# Altium integrated library 6220xx21821 (rev17a).IntLib: 24 symbols
Pins are listed as number, name and electrical type; pins without a type are passive.

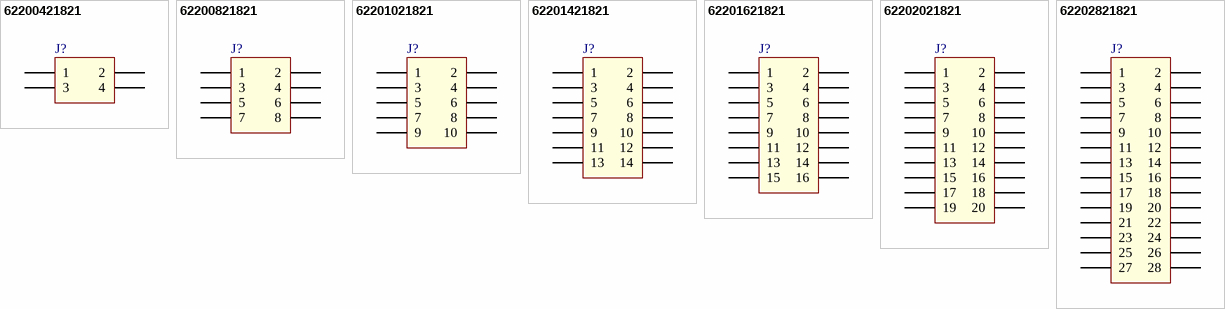
[diagram p0: symbols 62200421821 to 62202821821]

## 62200421821
designator J?
1.27mm THT Straight Dual Socket Header WR-PHD, 4p; Part Number: 62200421821; Pin Number: 4; Rated Current: 1A; Working Voltage: 100V AC; Withstanding Voltage: 500V AC; ComponentLink1Description: Manufacturer; ComponentLink1URL: http://www.we-online.de; ComponentLink2Description: Datasheet; ComponentLink2URL: http://katalog.we-online.de/em/datasheet/62200421821.pdf; Published Date: August 2017; Publisher: Wurth Elektronik; Pitch: 1.27mm
footprint 62200421821
pins: 1, 2, 3, 4

## 62200821821
designator J?
1.27mm THT Straight Dual Socket Header WR-PHD, 8p; Part Number: 62200821821; Pin Number: 8; Rated Current: 1A; Working Voltage: 100V AC; Withstanding Voltage: 500V AC; ComponentLink1Description: Manufacturer; ComponentLink1URL: http://www.we-online.de; ComponentLink2Description: Datasheet; ComponentLink2URL: http://katalog.we-online.de/em/datasheet/62200821821.pdf; Published Date: August 2017; Publisher: Wurth Elektronik; Pitch: 1.27mm
footprint 62200821821
pins: 1, 2, 3, 4, 5, 6, 7, 8

## 62201021821
designator J?
1.27mm THT Straight Dual Socket Header WR-PHD, 10p; Part Number: 62201021821; Pin Number: 10; Rated Current: 1A; Working Voltage: 100V AC; Withstanding Voltage: 500V AC; ComponentLink1Description: Manufacturer; ComponentLink1URL: http://www.we-online.de; ComponentLink2Description: Datasheet; ComponentLink2URL: http://katalog.we-online.de/em/datasheet/62201021821.pdf; Published Date: August 2017; Publisher: Wurth Elektronik; Pitch: 1.27mm
footprint 62201021821
pins: 1, 2, 3, 4, 5, 6, 7, 8, 9, 10

## 62201421821
designator J?
1.27mm THT Straight Dual Socket Header WR-PHD, 14p; Part Number: 62201421821; Pin Number: 14; Rated Current: 1A; Working Voltage: 100V AC; Withstanding Voltage: 500V AC; ComponentLink1Description: Manufacturer; ComponentLink1URL: http://www.we-online.de; ComponentLink2Description: Datasheet; ComponentLink2URL: http://katalog.we-online.de/em/datasheet/62201421821.pdf; Published Date: August 2017; Publisher: Wurth Elektronik; Pitch: 1.27mm
footprint 62201421821
pins: 1, 2, 3, 4, 5, 6, 7, 8, 9, 10, 11, 12, 13, 14

## 62201621821
designator J?
1.27mm THT Straight Dual Socket Header WR-PHD, 16p; Part Number: 62201621821; Pin Number: 16; Rated Current: 1A; Working Voltage: 100V AC; Withstanding Voltage: 500V AC; ComponentLink1Description: Manufacturer; ComponentLink1URL: http://www.we-online.de; ComponentLink2Description: Datasheet; ComponentLink2URL: http://katalog.we-online.de/em/datasheet/62201621821.pdf; Published Date: August 2017; Publisher: Wurth Elektronik; Pitch: 1.27mm
footprint 62201621821
pins: 1, 2, 3, 4, 5, 6, 7, 8, 9, 10, 11, 12, 13, 14, 15, 16

## 62202021821
designator J?
1.27mm THT Straight Dual Socket Header WR-PHD, 20p; Part Number: 62202021821; Pin Number: 20; Rated Current: 1A; Working Voltage: 100V AC; Withstanding Voltage: 500V AC; ComponentLink1Description: Manufacturer; ComponentLink1URL: http://www.we-online.de; ComponentLink2Description: Datasheet; ComponentLink2URL: http://katalog.we-online.de/em/datasheet/62202021821.pdf; Published Date: August 2017; Publisher: Wurth Elektronik; Pitch: 1.27mm
footprint 62202021821
pins: 1, 2, 3, 4, 5, 6, 7, 8, 9, 10, 11, 12, 13, 14, 15, 16, 17, 18, 19, 20

## 62202821821
designator J?
1.27mm THT Straight Dual Socket Header WR-PHD, 28p; Part Number: 62202821821; Pin Number: 28; Rated Current: 1A; Working Voltage: 100V AC; Withstanding Voltage: 500V AC; ComponentLink1Description: Manufacturer; ComponentLink1URL: http://www.we-online.de; ComponentLink2Description: Datasheet; ComponentLink2URL: http://katalog.we-online.de/em/datasheet/62202821821.pdf; Published Date: August 2017; Publisher: Wurth Elektronik; Pitch: 1.27mm
footprint 62202821821
pins: 1, 2, 3, 4, 5, 6, 7, 8, 9, 10, 11, 12, 13, 14, 15, 16, 17, 18, 19, 20, 21, 22, 23, 24, 25, 26, 27, 28


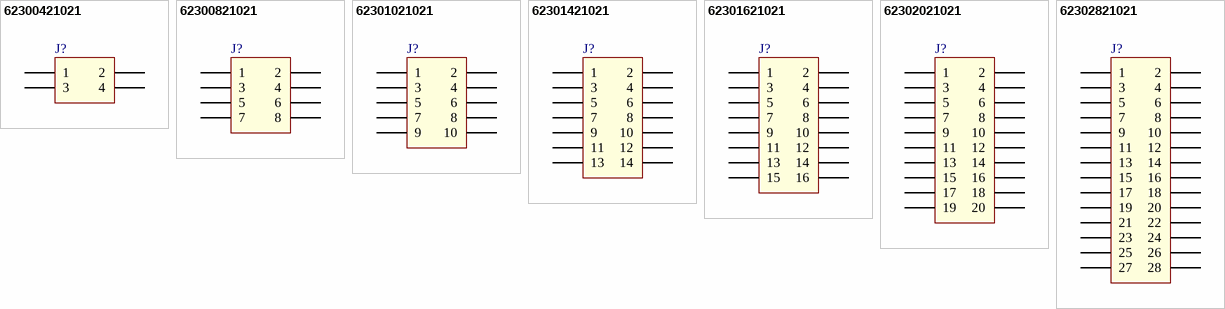
[diagram p1: symbols 62300421021 to 62302821021]

## 62300421021
designator J?
1.27mm SMT Straight Dual Socket Header WR-PHD, 4p; Part Number: 62300421021; Pin Number: 4; Rated Current: 1A; Working Voltage: 100V AC; Withstanding Voltage: 500V AC; ComponentLink1Description: Manufacturer; ComponentLink1URL: http://www.we-online.de; ComponentLink2Description: Datasheet; ComponentLink2URL: http://katalog.we-online.de/em/datasheet/62300421021.pdf; Published Date: August 2017; Publisher: Wurth Elektronik; Pitch: 1.27mm
footprint 62300421021
pins: 1, 2, 3, 4

## 62300821021
designator J?
1.27mm SMT Straight Dual Socket Header WR-PHD, 8p; Part Number: 62300821021; Pin Number: 8; Rated Current: 1A; Working Voltage: 100V AC; Withstanding Voltage: 500V AC; ComponentLink1Description: Manufacturer; ComponentLink1URL: http://www.we-online.de; ComponentLink2Description: Datasheet; ComponentLink2URL: http://katalog.we-online.de/em/datasheet/62300821021.pdf; Published Date: August 2017; Publisher: Wurth Elektronik; Pitch: 1.27mm
footprint 62300821021
pins: 1, 2, 3, 4, 5, 6, 7, 8

## 62301021021
designator J?
1.27mm SMT Straight Dual Socket Header WR-PHD, 10p; Part Number: 62301021021; Pin Number: 10; Rated Current: 1A; Working Voltage: 100V AC; Withstanding Voltage: 500V AC; ComponentLink1Description: Manufacturer; ComponentLink1URL: http://www.we-online.de; ComponentLink2Description: Datasheet; ComponentLink2URL: http://katalog.we-online.de/em/datasheet/62301021021.pdf; Published Date: August 2017; Publisher: Wurth Elektronik; Pitch: 1.27mm
footprint 62301021021
pins: 1, 2, 3, 4, 5, 6, 7, 8, 9, 10

## 62301421021
designator J?
1.27mm SMT Straight Dual Socket Header WR-PHD, 14p; Part Number: 62301421021; Pin Number: 14; Rated Current: 1A; Working Voltage: 100V AC; Withstanding Voltage: 500V AC; ComponentLink1Description: Manufacturer; ComponentLink1URL: http://www.we-online.de; ComponentLink2Description: Datasheet; ComponentLink2URL: http://katalog.we-online.de/em/datasheet/62301421021.pdf; Published Date: August 2017; Publisher: Wurth Elektronik; Pitch: 1.27mm
footprint 62301421021
pins: 1, 2, 3, 4, 5, 6, 7, 8, 9, 10, 11, 12, 13, 14

## 62301621021
designator J?
1.27mm SMT Straight Dual Socket Header WR-PHD, 16p; Part Number: 62301621021; Pin Number: 16; Rated Current: 1A; Working Voltage: 100V AC; Withstanding Voltage: 500V AC; ComponentLink1Description: Manufacturer; ComponentLink1URL: http://www.we-online.de; ComponentLink2Description: Datasheet; ComponentLink2URL: http://katalog.we-online.de/em/datasheet/62301621021.pdf; Published Date: August 2017; Publisher: Wurth Elektronik; Pitch: 1.27mm
footprint 62301621021
pins: 1, 2, 3, 4, 5, 6, 7, 8, 9, 10, 11, 12, 13, 14, 15, 16

## 62302021021
designator J?
1.27mm SMT Straight Dual Socket Header WR-PHD, 20p; Part Number: 62302021021; Pin Number: 20; Rated Current: 1A; Working Voltage: 100V AC; Withstanding Voltage: 500V AC; ComponentLink1Description: Manufacturer; ComponentLink1URL: http://www.we-online.de; ComponentLink2Description: Datasheet; ComponentLink2URL: http://katalog.we-online.de/em/datasheet/62302021021.pdf; Published Date: August 2017; Publisher: Wurth Elektronik; Pitch: 1.27mm
footprint 62302021021
pins: 1, 2, 3, 4, 5, 6, 7, 8, 9, 10, 11, 12, 13, 14, 15, 16, 17, 18, 19, 20

## 62302821021
designator J?
1.27mm SMT Straight Dual Socket Header WR-PHD, 28p; Part Number: 62302821021; Pin Number: 28; Rated Current: 1A; Working Voltage: 100V AC; Withstanding Voltage: 500V AC; ComponentLink1Description: Manufacturer; ComponentLink1URL: http://www.we-online.de; ComponentLink2Description: Datasheet; ComponentLink2URL: http://katalog.we-online.de/em/datasheet/62302821021.pdf; Published Date: August 2017; Publisher: Wurth Elektronik; Pitch: 1.27mm
footprint 62302821021
pins: 1, 2, 3, 4, 5, 6, 7, 8, 9, 10, 11, 12, 13, 14, 15, 16, 17, 18, 19, 20, 21, 22, 23, 24, 25, 26, 27, 28


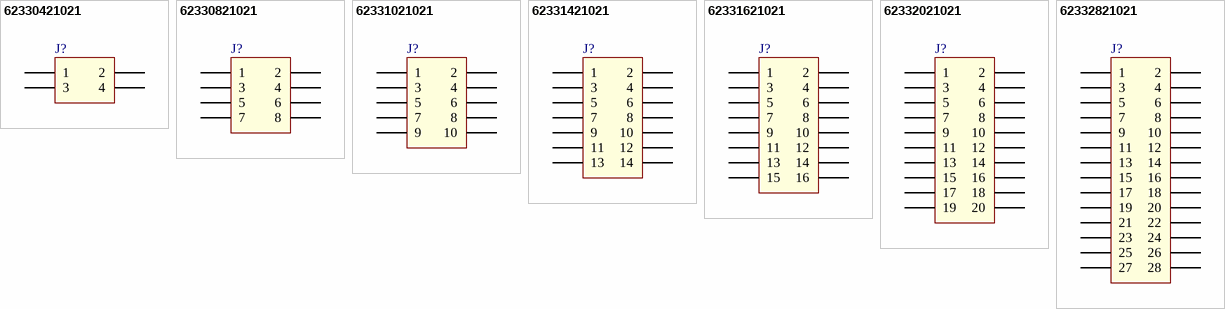
[diagram p2: symbols 62330421021 to 62332821021]

## 62330421021
designator J?
1.27mm SMT Straight Dual Socket Header WR-PHD, 4p; Part Number: 62330421021; Pin Number: 4; Rated Current: 1A; Working Voltage: 100V AC; Withstanding Voltage: 500V AC; ComponentLink1Description: Manufacturer; ComponentLink1URL: http://www.we-online.de; ComponentLink2Description: Datasheet; ComponentLink2URL: http://katalog.we-online.de/em/datasheet/62330421021.pdf; Published Date: August 2017; Publisher: Wurth Elektronik; Pitch: 1.27mm
footprint 62330421021
pins: 1, 2, 3, 4

## 62330821021
designator J?
1.27mm SMT Straight Dual Socket Header WR-PHD, 8p; Part Number: 62330821021; Pin Number: 8; Rated Current: 1A; Working Voltage: 100V AC; Withstanding Voltage: 500V AC; ComponentLink1Description: Manufacturer; ComponentLink1URL: http://www.we-online.de; ComponentLink2Description: Datasheet; ComponentLink2URL: http://katalog.we-online.de/em/datasheet/62330821021.pdf; Published Date: August 2017; Publisher: Wurth Elektronik; Pitch: 1.27mm
footprint 62330821021
pins: 1, 2, 3, 4, 5, 6, 7, 8

## 62331021021
designator J?
1.27mm SMT Straight Dual Socket Header WR-PHD, 10p; Part Number: 62331021021; Pin Number: 10; Rated Current: 1A; Working Voltage: 100V AC; Withstanding Voltage: 500V AC; ComponentLink1Description: Manufacturer; ComponentLink1URL: http://www.we-online.de; ComponentLink2Description: Datasheet; ComponentLink2URL: http://katalog.we-online.de/em/datasheet/62331021021.pdf; Published Date: August 2017; Publisher: Wurth Elektronik; Pitch: 1.27mm
footprint 62331021021
pins: 1, 2, 3, 4, 5, 6, 7, 8, 9, 10

## 62331421021
designator J?
1.27mm SMT Straight Dual Socket Header WR-PHD, 14p; Part Number: 62331421021; Pin Number: 14; Rated Current: 1A; Working Voltage: 100V AC; Withstanding Voltage: 500V AC; ComponentLink1Description: Manufacturer; ComponentLink1URL: http://www.we-online.de; ComponentLink2Description: Datasheet; ComponentLink2URL: http://katalog.we-online.de/em/datasheet/62331421021.pdf; Published Date: August 2017; Publisher: Wurth Elektronik; Pitch: 1.27mm
footprint 62331421021
pins: 1, 2, 3, 4, 5, 6, 7, 8, 9, 10, 11, 12, 13, 14

## 62331621021
designator J?
1.27mm SMT Straight Dual Socket Header WR-PHD, 16p; Part Number: 62331621021; Pin Number: 16; Rated Current: 1A; Working Voltage: 100V AC; Withstanding Voltage: 500V AC; ComponentLink1Description: Manufacturer; ComponentLink1URL: http://www.we-online.de; ComponentLink2Description: Datasheet; ComponentLink2URL: http://katalog.we-online.de/em/datasheet/62331621021.pdf; Published Date: August 2017; Publisher: Wurth Elektronik; Pitch: 1.27mm
footprint 62331621021
pins: 1, 2, 3, 4, 5, 6, 7, 8, 9, 10, 11, 12, 13, 14, 15, 16

## 62332021021
designator J?
1.27mm SMT Straight Dual Socket Header WR-PHD, 20p; Part Number: 62332021021; Pin Number: 20; Rated Current: 1A; Working Voltage: 100V AC; Withstanding Voltage: 500V AC; ComponentLink1Description: Manufacturer; ComponentLink1URL: http://www.we-online.de; ComponentLink2Description: Datasheet; ComponentLink2URL: http://katalog.we-online.de/em/datasheet/62332021021.pdf; Published Date: August 2017; Publisher: Wurth Elektronik; Pitch: 1.27mm
footprint 62332021021
pins: 1, 2, 3, 4, 5, 6, 7, 8, 9, 10, 11, 12, 13, 14, 15, 16, 17, 18, 19, 20

## 62332821021
designator J?
1.27mm SMT Straight Dual Socket Header WR-PHD, 28p; Part Number: 62332821021; Pin Number: 28; Rated Current: 1A; Working Voltage: 100V AC; Withstanding Voltage: 500V AC; ComponentLink1Description: Manufacturer; ComponentLink1URL: http://www.we-online.de; ComponentLink2Description: Datasheet; ComponentLink2URL: http://katalog.we-online.de/em/datasheet/62332821021.pdf; Published Date: August 2017; Publisher: Wurth Elektronik; Pitch: 1.27mm
footprint 62332821021
pins: 1, 2, 3, 4, 5, 6, 7, 8, 9, 10, 11, 12, 13, 14, 15, 16, 17, 18, 19, 20, 21, 22, 23, 24, 25, 26, 27, 28


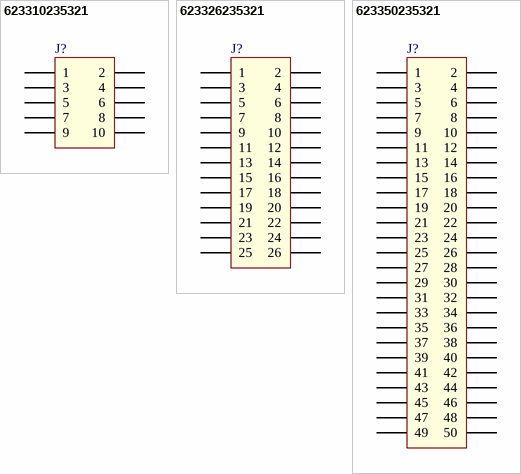
[diagram p3: symbols 623310235321 to 623350235321]

## 623310235321
designator J?
1.27mm SMT Straight Dual Low Profile Bottom Entry Socket Header WR-PHD, 10p; Part Number: 623310235321; Pin Number: 10; Rated Current: 1A; Working Voltage: 100V AC; Withstanding Voltage: 500V AC; ComponentLink1Description: Manufacturer; ComponentLink1URL: http://www.we-online.de; ComponentLink2Description: Datasheet; ComponentLink2URL: http://katalog.we-online.de/em/datasheet/623310235321.pdf; Published Date: August 2017; Publisher: Wurth Elektronik; Pitch: 1.27mm
footprint 623310235321
pins: 1, 2, 3, 4, 5, 6, 7, 8, 9, 10

## 623326235321
designator J?
1.27mm SMT Straight Dual Low Profile Bottom Entry Socket Header WR-PHD, 26p; Part Number: 623326235321; Pin Number: 26; Rated Current: 1A; Working Voltage: 100V AC; Withstanding Voltage: 500V AC; ComponentLink1Description: Manufacturer; ComponentLink1URL: http://www.we-online.de; ComponentLink2Description: Datasheet; ComponentLink2URL: http://katalog.we-online.de/em/datasheet/623326235321.pdf; Published Date: August 2017; Publisher: Wurth Elektronik; Pitch: 1.27mm
footprint 623326235321
pins: 1, 2, 3, 4, 5, 6, 7, 8, 9, 10, 11, 12, 13, 14, 15, 16, 17, 18, 19, 20, 21, 22, 23, 24, 25, 26

## 623350235321
designator J?
1.27mm SMT Straight Dual Low Profile Bottom Entry Socket Header WR-PHD, 50p; Part Number: 623350235321; Pin Number: 50; Rated Current: 1A; Working Voltage: 100V AC; Withstanding Voltage: 500V AC; ComponentLink1Description: Manufacturer; ComponentLink1URL: http://www.we-online.de; ComponentLink2Description: Datasheet; ComponentLink2URL: http://katalog.we-online.de/em/datasheet/623350235321.pdf; Published Date: August 2017; Publisher: Wurth Elektronik; Pitch: 1.27mm
footprint 623350235321
pins: 1, 2, 3, 4, 5, 6, 7, 8, 9, 10, 11, 12, 13, 14, 15, 16, 17, 18, 19, 20, 21, 22, 23, 24, 25, 26, 27, 28, 29, 30, 31, 32, 33, 34, 35, 36, 37, 38, 39, 40, 41, 42, 43, 44, 45, 46, 47, 48, 49, 50